# EAGLE library part MCP16301T-I/CHY (library smartplug)
IC, BUCK, ADJ, 0.6A, 6SOT23
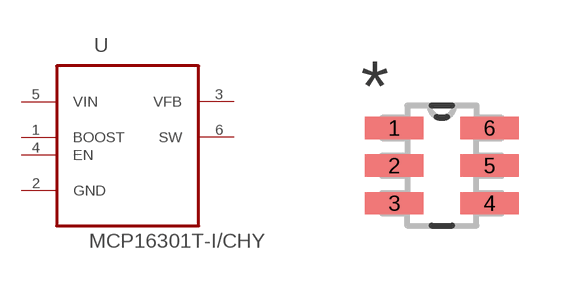
[diagram p4: symbol with the pads of SOT95P290X145-6N; footprint SOT95P290X145-6N]

Designator prefix U

## MCP16301T-I/CHY (MPN: MCP16301T-I/CHY; OC_FARNELL: 2009288; OC_NEWARK: 58T3650; PACKAGE: SOT23-6; SUPPLIER: Microchip)  [SOT95P290X145-6N]
1  BOOST  pas
2  GND  pas
3  VFB  out
4  EN  in
5  VIN  in
6  SW  out

## Footprint SOT95P290X145-6N (pad centres in mm)
smd 1.473 x 0.559: 1 -1.194,0.94; 2 -1.194,0; 3 -1.194,-0.94; 4 1.194,-0.94; 5 1.194,0; 6 1.194,0.94